# Altium integrated library TRI.IntLib: 2 symbols
Pins are listed as number, name and electrical type; pins without a type are passive.

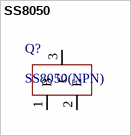
[diagram p0: symbol SS8050]

## SS8050
designator Q?, comment SS8050(NPN)
footprint SS8050(SOT95P245X110-3N) (SOT23, 3-Leads, Body 3.0x2.6mm (max), Pitch 0.95mm, IPC Medium Density)
pins: 1 B, 2 E, 3 C


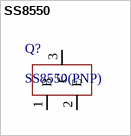
[diagram p1: symbol SS8550]

## SS8550
designator Q?, comment SS8550(PNP)
footprint SS8550(SOT95P245X110-3N) (SOT23, 3-Leads, Body 3.0x2.6mm (max), Pitch 0.95mm, IPC Medium Density)
pins: 1 B, 2 E, 3 C